# EAGLE library part 691401700003 (library Wurth_Elektronik_Electromechanic_Terminal_Blocks_Connectors_rev15c)
WR-TBL Terminal block - serie 401 5,0mm - Spring clamp/Screw less - Vertical entry - 03p Code:Con_TBL_Screwless_5.00_6914017000xx_691401700003 <http://katalog.we-online.de/media/images/eican/Con_TBL_Screwless_5.00_6914017000xx_pf2.jpg> Details see: http://katalog.we-online.de/en/em/691_401_700_0xx/691_401_700_003?m Created 2014-12-22, aslant tao 2014 (C) Würth Elektronik
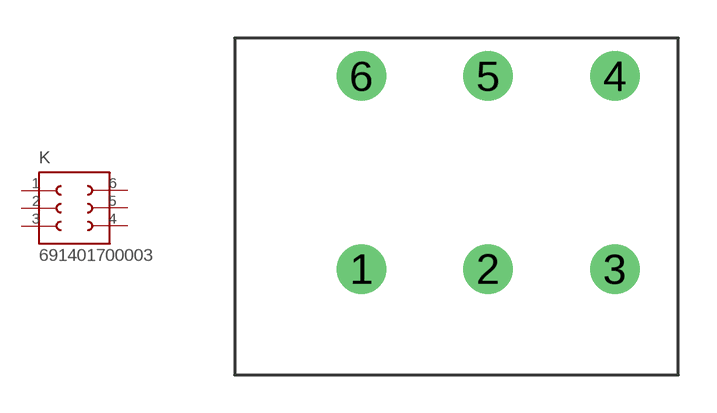
[diagram p259: symbol with the pads of 691401700003; footprint 691401700003]

Designator prefix K

## 691401700003  [691401700003]
1  1  pas
2  2  pas
3  3  pas
4  4  pas
5  5  pas
6  6  pas

## Footprint 691401700003 (pad centres in mm)
WR-TBL Serie 401 - 5.0mm Screwless Vertikal Entry - 2 mm2 Wires, 3 Pins
drill 1.3: 1 -5,0; 2 0,0; 3 5,0; 4 5,7.62; 5 0,7.62; 6 -5,7.62